# EAGLE library part 31FL3218 (library Bits_library_eagle)
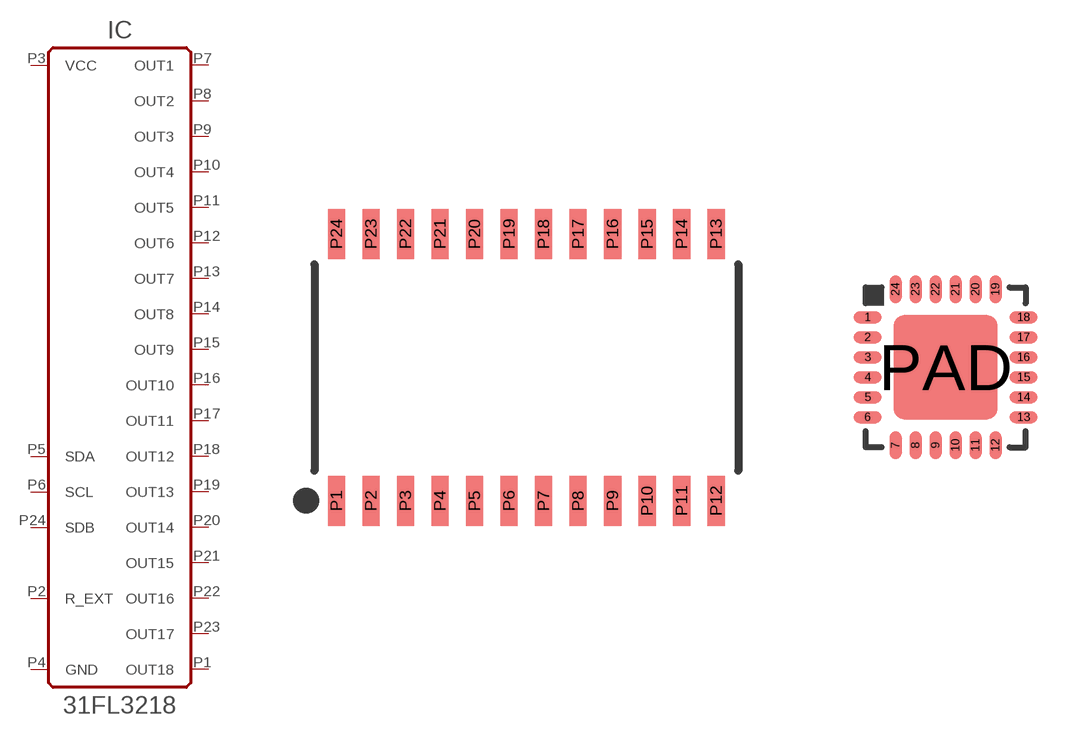
[diagram p72: symbol with the pads of SOP-24; footprints SOP-24, QFN-24]

Designator prefix IC

## 31FL3218SOP-24  [SOP-24]
P1  OUT18
P2  R_EXT
P3  VCC  pwr
P4  GND  pwr
P5  SDA
P6  SCL
P7  OUT1
P8  OUT2
P9  OUT3
P10  OUT4
P11  OUT5
P12  OUT6
P13  OUT7
P14  OUT8
P15  OUT9
P16  OUT10
P17  OUT11
P18  OUT12
P19  OUT13
P20  OUT14
P21  OUT15
P22  OUT16
P23  OUT17
P24  SDB

## 31FL3218QFN-24  [QFN-24]
1  OUT18
2  R_EXT
3  VCC  pwr
4  GND  pwr
5  SDA
6  SCL
7  OUT1
8  OUT2
9  OUT3
10  OUT4
11  OUT5
12  OUT6
13  OUT7
14  OUT8
15  OUT9
16  OUT10
17  OUT11
18  OUT12
19  OUT13
20  OUT14
21  OUT15
22  OUT16
23  OUT17
24  SDB
PAD  GND  pwr

## Footprint SOP-24 (pad centres in mm)
smd 0.63 x 1.83: P1 -6.985,-4.91; P2 -5.715,-4.91; P3 -4.445,-4.91; P4 -3.175,-4.91; P5 -1.905,-4.91; P6 -0.635,-4.91; P7 0.635,-4.91; P8 1.905,-4.91; P9 3.175,-4.91; P10 4.445,-4.91; P11 5.715,-4.91; P12 6.985,-4.91; P13 6.985,4.91; P14 5.715,4.91; P15 4.445,4.91; P16 3.175,4.91; P17 1.905,4.91; P18 0.635,4.91; P19 -0.635,4.91; P20 -1.905,4.91; P21 -3.175,4.91; P22 -4.445,4.91; P23 -5.715,4.91; P24 -6.985,4.91

## Footprint QFN-24 (pad centres in mm)
smd 0.7 x 0.3: 1 -1.95,1.25; 2 -1.95,0.75; 3 -1.95,0.25; 4 -1.95,-0.25; 5 -1.95,-0.75; 6 -1.95,-1.25; 13 1.95,-1.25; 14 1.95,-0.75; 15 1.95,-0.25; 16 1.95,0.25; 17 1.95,0.75; 18 1.95,1.25
smd 0.3 x 0.7: 7 -1.25,-1.95; 8 -0.75,-1.95; 9 -0.25,-1.95; 10 0.25,-1.95; 11 0.75,-1.95; 12 1.25,-1.95; 19 1.25,1.95; 20 0.75,1.95; 21 0.25,1.95; 22 -0.25,1.95; 23 -0.75,1.95; 24 -1.25,1.95
smd 2.6 x 2.6: PAD 0,0